# EAGLE library part 1X17 (library Jordi)
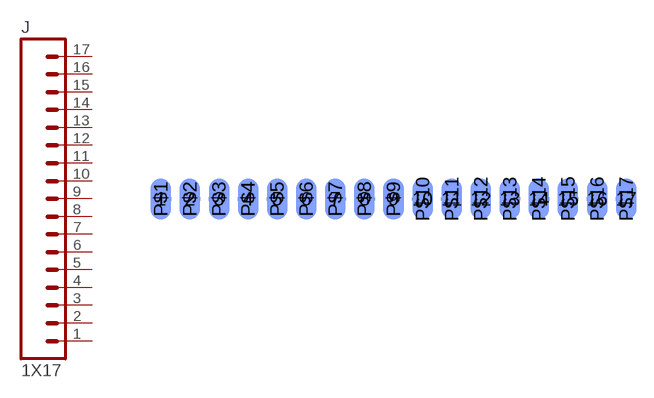
[diagram p44: symbol with the pads of CASTELLATION-17-0.1; footprint CASTELLATION-17-0.1]

Designator prefix J

## 1X17CAS-0.1  [CASTELLATION-17-0.1]
1  1  pas
2  2  pas
3  3  pas
4  4  pas
5  5  pas
6  6  pas
7  7  pas
8  8  pas
9  9  pas
10  10  pas
11  11  pas
12  12  pas
13  13  pas
14  14  pas
15  15  pas
16  16  pas
17  17  pas

## Footprint CASTELLATION-17-0.1 (pad centres in mm)
drill 1.016 pad 1.778: 1 -20.32,0; 2 -17.78,0; 3 -15.24,0; 4 -12.7,0; 5 -10.16,0; 6 -7.62,0; 7 -5.08,0; 8 -2.54,0; 9 0,0; 10 2.54,0; 11 5.08,0; 12 7.62,0; 13 10.16,0; 14 12.7,0; 15 15.24,0; 16 17.78,0; 17 20.32,0
smd 1.778 x 3.556 bottom: P$1 -20.32,0; P$2 -17.78,0; P$3 -15.24,0; P$4 -12.7,0; P$5 -10.16,0; P$6 -7.62,0; P$7 -5.08,0; P$8 -2.54,0; P$9 0,0; P$10 2.54,0; P$11 5.08,0; P$12 7.62,0; P$13 10.16,0; P$14 12.7,0; P$15 15.24,0; P$16 17.78,0; P$17 20.32,0